# Altium schematic symbol library CL05B103KA5NNND.SchLib: 2 symbols
Pins are listed as number, name and electrical type; pins without a type are passive.

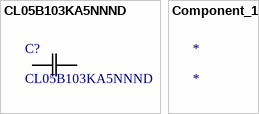
[diagram p0: symbols CL05B103KA5NNND to Component_1]

## CL05B103KA5NNND
designator C?
No Description Available; Mfr_Name: Samsung; Type: DEV; Copyright: Copyright (C) 2022 Ultra Librarian. All rights reserved.; Manufacturer_Part_Number: CL05B103KA5NNND; Digi-Key_Part_Number_1: CL05B103KA5NNND-ND; RefDes: RefDes
footprint CAP_CL05_SAM
pins: 1, 2

## Component_1
designator *